# EAGLE library part MSP430G2*53?32R (library MasterPhonebot)
MSP430G2x53 Description The Texas Instruments MSP430 family of ultra-low-power microcontrollers consists of several devices featuring different sets of peripherals targeted for various applications. The architecture, combined with five low-power modes, is optimized to achieve extended battery life in portable measurement applications. The device features a powerful 16-bit RISC CPU, 16-bit registers, and constant generators that contribute to maximum code efficiency. The digitally controlled oscillator (DCO) allows wake-up from low-power modes to active mode in less than 1 µs. The MSP430G2x13 and MSP430G2x53 series are ultra-low-power mixed signal microcontrollers with built-in 16-bit timers, up to 24 I/O capacitive-touch enabled pins, a versatile analog comparator, and built-in communication capability using the universal serial communication interface. In addition the MSP430G2x53 family members have a 10-bit analog-to-digital (A/D) converter. For configuration details see . Typical applications include low-cost sensor systems that capture analog signals, convert them to digital values, and then process the data for display or for transmission to a host system. Features Low Supply-Voltage Range: 1.8 V to 3.6 V Ultra-Low Power Consumption Active Mode: 230 µA at 1 MHz, 2.2 V Standby Mode: 0.5 µA Off Mode (RAM Retention): 0.1 µA Five Power-Saving Modes Ultra-Fast Wake-Up From Standby Mode in Less Than 1 µs 16-Bit RISC Architecture, 62.5-ns Instruction Cycle Time Basic Clock Module Configurations Internal Frequencies up to 16 MHz With Four Calibrated Frequency Internal Very-Low-Power Low-Frequency (LF) Oscillator 32-kHz Crystal External Digital Clock Source Two 16-Bit Timer_A With Three Capture/Compare Registers Up to 24 Capacitive-Touch Enabled I/O Pins Universal Serial Communication Interface (USCI) Enhanced UART Supporting Auto Baudrate Detection (LIN) IrDA Encoder and Decoder Synchronous SPI I2C™ On-Chip Comparator for Analog Signal Compare Function or Slope Analog-to-Digital (A/D) Conversion 10-Bit 200-ksps Analog-to-Digital (A/D) Converter With Internal Reference, Sample-and-Hold, and Autoscan Brownout Detector Serial Onboard Programming, No External Programming Voltage Needed, Programmable Code Protection by Security Fuse On-Chip Emulation Logic With Spy-Bi-Wire Interface Package Options TSSOP: 20 Pin, 28 Pin PDIP: 20 Pin QFN: 32 Pin Details see: Datasheet <http://www.ti.com/lit/ds/symlink/msp430g2553.pdf> General Information: www.ti.com <http://www.ti.com/product/msp430g2553> Created: L.Lischke 2015-03-21 (c) KK-Prime Engineering GmbH
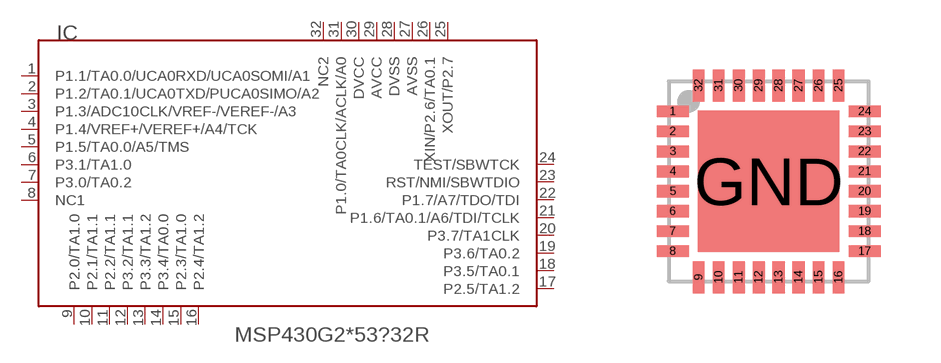
[diagram p17: symbol with the pads of QFN50P500X500X100-33L; footprint QFN50P500X500X100-33L]

Designator prefix IC

## MSP430G2153IRHB32R, MSP430G2253IRHB32R, MSP430G2353IRHB32R, MSP430G2453IRHB32R, MSP430G2553IRHB32R  [QFN50P500X500X100-33L]
1  P1.1/TA0.0/UCA0RXD/UCA0SOMI/A1
2  P1.2/TA0.1/UCA0TXD/PUCA0SIMO/A2
3  P1.3/ADC10CLK/VREF-/VEREF-/A3
4  P1.4/VREF+/VEREF+/A4/TCK
5  P1.5/TA0.0/A5/TMS
6  P3.1/TA1.0
7  P3.0/TA0.2
8  NC1  nc
9  P2.0/TA1.0
10  P2.1/TA1.1
11  P2.2/TA1.1
12  P3.2/TA1.1
13  P3.3/TA1.2
14  P3.4/TA0.0
15  P2.3/TA1.0
16  P2.4/TA1.2
17  P2.5/TA1.2
18  P3.5/TA0.1
19  P3.6/TA0.2
20  P3.7/TA1CLK
21  P1.6/TA0.1/A6/TDI/TCLK
22  P1.7/A7/TDO/TDI
23  RST/NMI/SBWTDIO
24  TEST/SBWTCK
25  XOUT/P2.7
26  XIN/P2.6/TA0.1
27  AVSS  pwr
28  DVSS  pwr
29  AVCC  pwr
30  DVCC  pwr
31  P1.0/TA0CLK/ACLK/A0
32  NC2  nc

## Footprint QFN50P500X500X100-33L (pad centres in mm)
32 Lead QFN with TT Package: S-PVQFN-N32 IPC: QFN50P500X500X100-33L Created: L.Lischke 2015-03-21 (c) KK-Prime Engineering GmbH
smd 0.8 x 0.3: 1 -2.4,1.75; 2 -2.4,1.25; 3 -2.4,0.75; 4 -2.4,0.25; 5 -2.4,-0.25; 6 -2.4,-0.75; 7 -2.4,-1.25; 8 -2.4,-1.75; 17 2.4,-1.75; 18 2.4,-1.25; 19 2.4,-0.75; 20 2.4,-0.25; 21 2.4,0.25; 22 2.4,0.75; 23 2.4,1.25; 24 2.4,1.75
smd 0.3 x 0.8: 9 -1.75,-2.4; 10 -1.25,-2.4; 11 -0.75,-2.4; 12 -0.25,-2.4; 13 0.25,-2.4; 14 0.75,-2.4; 15 1.25,-2.4; 16 1.75,-2.4; 25 1.75,2.4; 26 1.25,2.4; 27 0.75,2.4; 28 0.25,2.4; 29 -0.25,2.4; 30 -0.75,2.4; 31 -1.25,2.4; 32 -1.75,2.4
smd 3.55 x 3.55: GND 0,0